# Altium footprint library 768290102.PcbLib: 1 footprints
Each footprint in its own frame and in the unit in brackets; x right, y up, seen from the top. Pads: shape width x height; smd on the part's side, far side on the other; paste and mask are expansions set on the pad; w line width, h text height; cw(c..) or ccw(c..) is an arc to the next point about the centre after c.
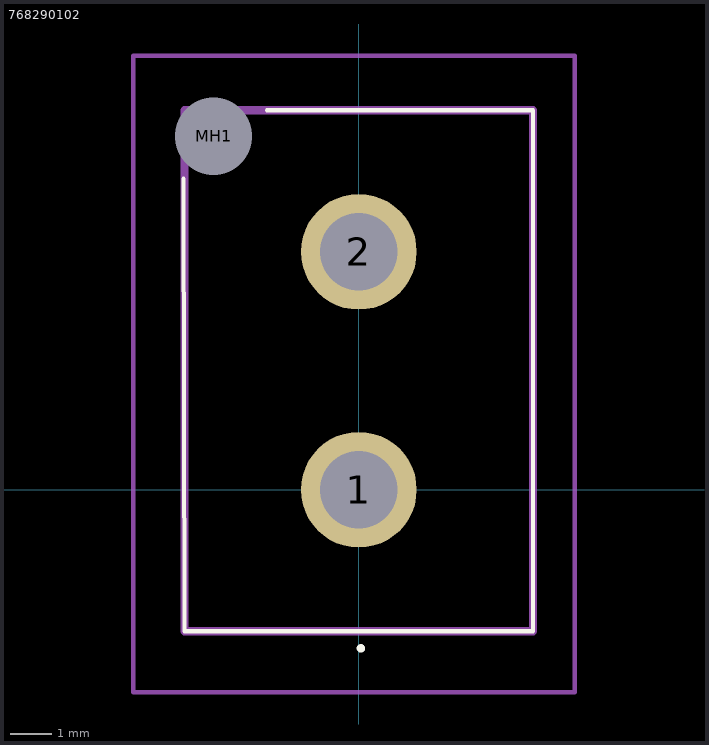
[diagram p0: the footprint, top view; thin cyan lines are the x and y axes]

## 768290102 [mm]
pads (3):
  round 2.775 hole 1.85: 1(0,0) 2(0,5.7)
  round 0.925 hole 1.85 unplated: MH1(-3.48,8.47)
Top Overlay:
  lines w0.1: -4.2,7.45 -4.175,-3.39 4.175,-3.39 4.175,9.09 -2.2,9.09 ; 0,-3.8 0,-3.8 ; 0,-3.8 ccw(c0.05,-3.8) 0.1,-3.8 ; 0,-3.8 cw(c0.05,-3.8) 0.1,-3.8 ; 0.1,-3.8 0.1,-3.8
Mechanical 15:
  lines w0.2: -4.175,-3.39 4.175,-3.39 4.175,9.09 -4.175,9.09 -4.175,-3.39
Mechanical 20:
  lines w0.1: -5.405,-4.85 5.175,-4.85 5.175,10.395 -5.405,10.395 -5.405,-4.85